# Altium footprint library pth-contacts.PcbLib: 3 footprints
Each footprint in its own frame and in the unit in brackets; x right, y up, seen from the top. Pads: shape width x height; smd on the part's side, far side on the other; paste and mask are expansions set on the pad; w line width, h text height; cw(c..) or ccw(c..) is an arc to the next point about the centre after c.
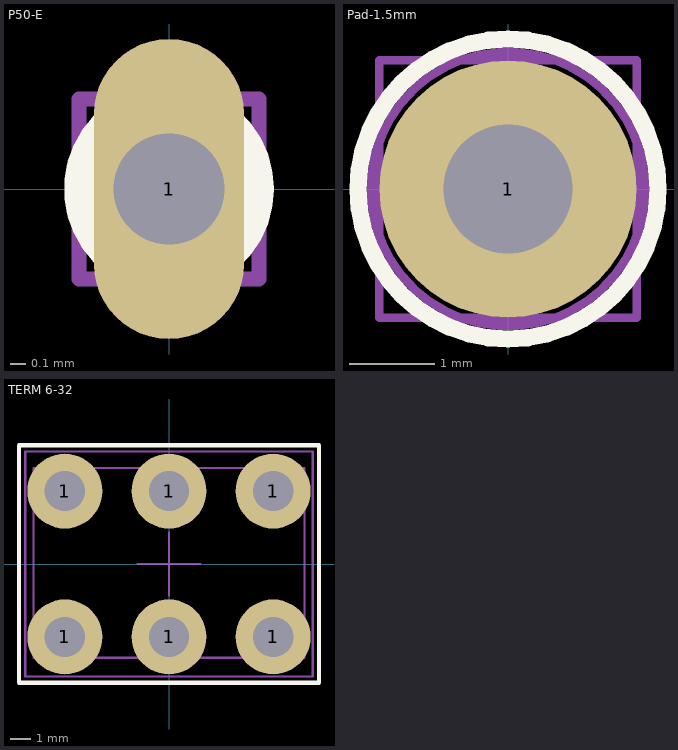
[diagram p0: the footprints below, top view; thin cyan lines are the x and y axes]

## P50-E [mm] "Test Probe 0.68mm"
height 13
pads (1):
  oval 1x2 hole 0.74: 1(0,0)
Top Overlay:
  circle w0.2: c0,0 r0.6
Mechanical 13:
  circle w0.1: c0,0 r0.6
  lines w0.1: -0.5,0 0.5,0 ; 0,-0.5 0,0.5
Mechanical 15:
  lines w0.1: -0.6,-0.6 0.6,-0.6 0.6,0.6 -0.6,0.6 -0.6,-0.6
  text ".Designator" at -1.665,-2.725 h0.5
3D body: height 7.55, standoff -9, extent -0.6,-0.6 0.6,0.6

## Pad-1.5mm [mm] "Wire Solder Pad 1.5mm"
pads (1):
  round 3 hole 1.5: 1(0,0)
Top Overlay:
  circle w0.2: c0,0 r1.75
Mechanical 13:
  circle w0.1: c0,0 r1.6
  lines w0.1: -0.5,0 0.5,0 ; 0,-0.5 0,0.5
Mechanical 15:
  lines w0.1: -1.5,-1.5 1.5,-1.5 1.5,1.5 -1.5,1.5 -1.5,-1.5
  text ".Designator" at -1.665,-2.725 h1.2

## TERM 6-32 [mm] "Screw Terminal 6 pins"
height 22.6
pads (6):
  round 3.6 / inner round 3 / far side round 3.6 hole 1.93: 1(-5,-3.5) 1(-5,3.5) 1(0,-3.5) 1(0,3.5) 1(5,-3.5) 1(5,3.5)
Top Overlay:
  lines w0.2: -7.2,-5.7 7.2,-5.7 7.2,5.7 -7.2,5.7 -7.2,-5.7
Mechanical 13:
  lines w0.1: -1.5,0 1.5,0 ; 0,-1.5 0,1.5 ; -6.5,-4.5 6.5,-4.5 6.5,4.6 -6.5,4.6 -6.5,-4.5
Mechanical 15:
  lines w0.1: -6.9,-5.4 6.9,-5.4 6.9,5.4 -6.9,5.4 -6.9,-5.4
  text ".Designator" at -2.45,-4.35 h0.5
3D body: height 9.49, standoff -3.82, extent -6.5,-4.553 6.5,4.553